# Altium schematic symbol library Kalibracija.SchLib: 6 symbols
Pins are listed as number, name and electrical type; pins without a type are passive.

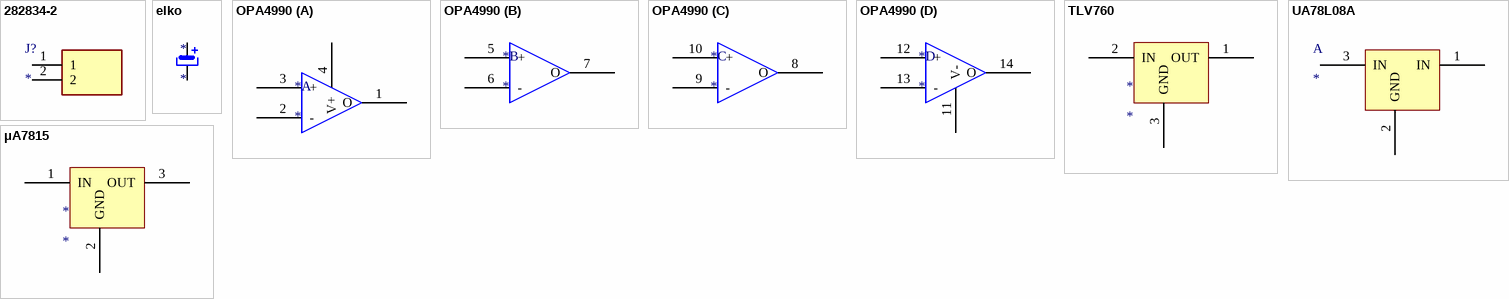
[diagram p0: symbols 282834-2 to μA7815]

## 282834-2
designator J?
Connector; Manufacturer_Name: TE Connectivity; Manufacturer_Part_Number: 282834-2; Description: Termi-Block 2 way pcb r/a Termi-Block 2 way pcb r/a; Allied_Number: 70086732; Datasheet Link: http://www.te.com/commerce/DocumentDelivery/DDEController?Action=showdoc&DocId=Catalog+Section%7F1308389_EUROSTYLE_TERMINAL_BLOCKS%7F0607%7Fpdf%7FEnglish%7FENG_CS_1308389_EUROSTYLE_TERMINAL_BLOCKS_0607.pdf%7F282834-2.pdf; Mouser Part Number: 571-282834-2; Mouser Price/Stock: https://www.mouser.com/Search/Refine.aspx?Keyword=571-282834-2; RS Part Number: 7100104P; RS Price/Stock: http://uk.rs-online.com/web/p/products/7100104P; Allied Price/Stock: http://www.alliedelec.com/te-connectivity-282834-2/70086732/
footprint 282834-2_1
pins: 1, 2

## elko
designator *
pins: 1, 2

## OPA4990
designator *
footprint SOIC127P600X175-14N (SOIC, 14-Leads, Body 8,65x3,90mm, Pitch 1,27mm, IPC Medium Density)
part A pins: 1 O, 2 -, 3 +, 4 V+ (power)
part B pins: 5 +, 6 -, 7 O
part C pins: 8 O, 9 -, 10 +
part D pins: 11 V- (power), 12 +, 13 -, 14 O

## TLV760
designator *
pins: 1 OUT (power), 2 IN, 3 GND (power)

## UA78L08A
designator A
pins: 1 IN, 2 GND (power), 3 IN (power)

## μA7815
designator *
pins: 1 IN, 2 GND (power), 3 OUT (power)